# EAGLE library part 1981568-1 (library con-usb)
Receptacle, micro-USB, type B Tyco Electronics
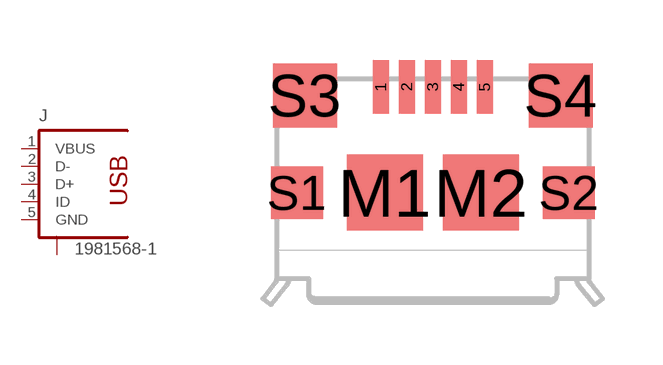
[diagram p7: symbol with the pads of 1981568-1; footprint 1981568-1]

Designator prefix J

## 1981568-1  [1981568-1]
1  VBUS  pas
2  D-  pas
3  D+  pas
4  ID  pas
5  GND  pas
M1  S  pas
M2  S  pas
S1  S  pas
S2  S  pas
S3  S  pas
S4  S  pas

## Footprint 1981568-1 (pad centres in mm)
Micro USB Type-B Receptacle Tyco Electronics
smd 0.4 x 1.35: 1 -1.3,4.1; 2 -0.65,4.1; 3 0,4.1; 4 0.65,4.1; 5 1.3,4.1
smd 1.9 x 1.9: M1 -1.2,1.45; M2 1.2,1.45
smd 1.3 x 1.3: S1 -3.4,1.45; S2 3.4,1.45
smd 1.6 x 1.6: S3 -3.2,3.885; S4 3.2,3.885